# EAGLE library part IR4427 (library ModernDevicePWM)
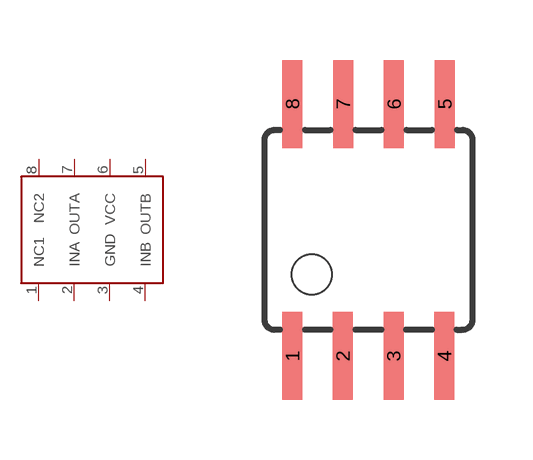
[diagram p0: symbol with the pads of IR4427; footprint IR4427]

Designator prefix -

## IR4427  [IR4427]
1  NC1
2  INA
3  GND
4  INB
5  OUTB
6  VCC
7  OUTA
8  NC2

## Footprint IR4427 (pad centres in mm)
Wide Plastic Gull Wing Small Outline Package
smd 0.5 x 2.2: 1 -1.905,-3.154; 2 -0.645,-3.154; 3 0.625,-3.154; 4 1.895,-3.154; 5 1.905,3.154; 6 0.635,3.154; 7 -0.635,3.154; 8 -1.905,3.154